# Altium footprint library LED.PcbLib: 25 footprints (part 2 of 2)
Each footprint in its own frame and in the unit in brackets; x right, y up, seen from the top. Pads: shape width x height; smd on the part's side, far side on the other; paste and mask are expansions set on the pad; w line width, h text height; cw(c..) or ccw(c..) is an arc to the next point about the centre after c.
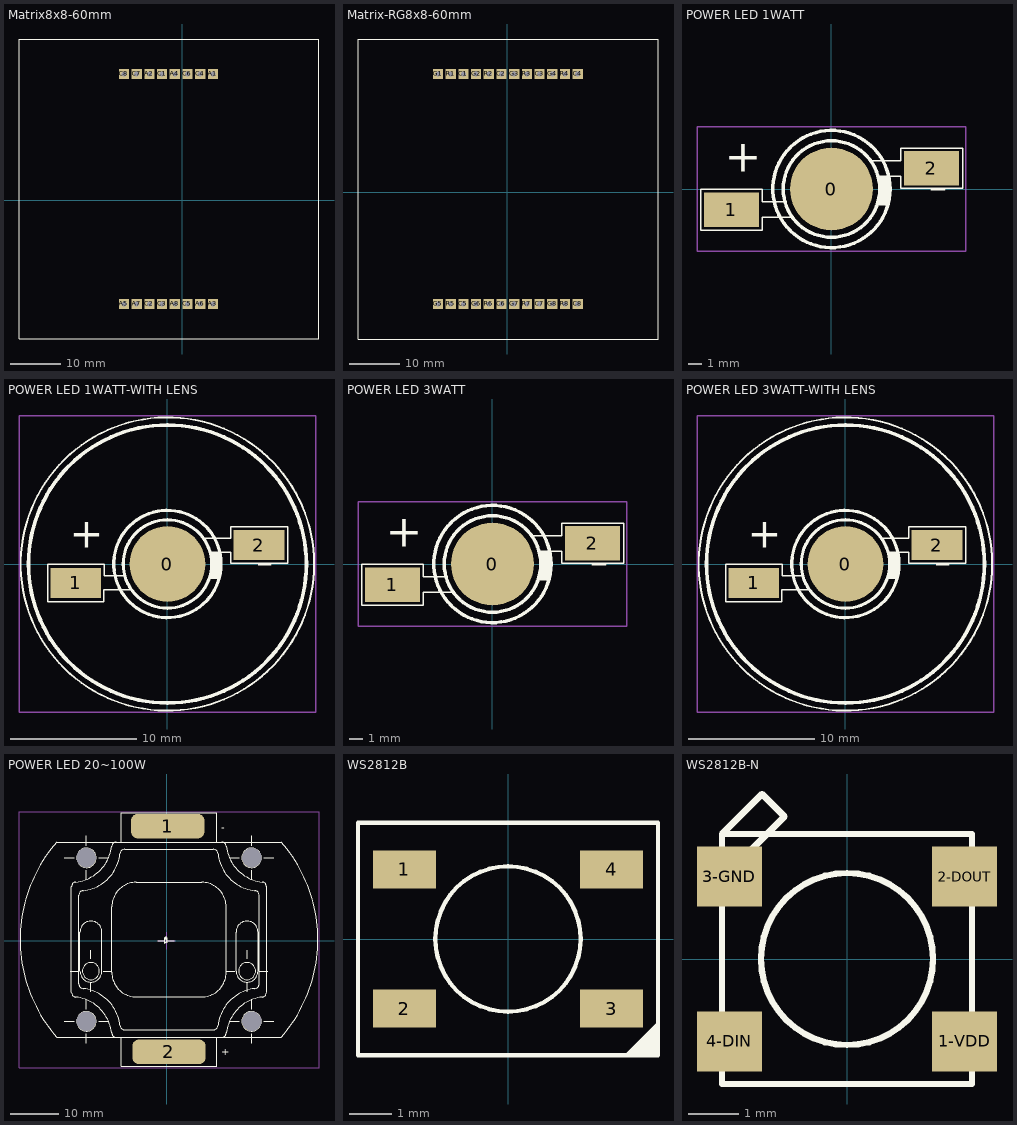
[diagram p1: the footprints below, top view; thin cyan lines are the x and y axes]

## Matrix8x8-60mm [mil]
pads (16):
  rect 80x80 hole 40: A1(240.75,996.09) A2(-259.25,996.09) A3(240.75,-815.01) A4(-59.25,996.09) A5(-459.25,-815.01) A6(140.75,-815.01) A7(-359.25,-815.01) A8(-59.25,-815.01) C1(-159.25,996.09) C2(-259.25,-815.01) C3(-159.25,-815.01) C4(140.75,996.09) C5(40.75,-815.01) C6(40.75,996.09) C7(-359.25,996.09) C8(-459.25,996.09)
Top Overlay:
  lines w8: -1285.95,-1090.61 -1285.95,1271.59 1076.15,1271.59 1076.15,-1090.61 -1285.95,-1090.61

## Matrix-RG8x8-60mm [mil]
pads (24):
  rect 80x80 hole 40: C1(-343.7,932.39) C2(-43.7,932.39) C3(256.3,932.39) C4(556.3,932.39) C5(-343.7,-878.71) C6(-43.7,-878.71) C7(256.3,-878.71) C8(556.3,-878.71) G1(-543.7,932.39) G2(-243.7,932.39) G3(56.3,932.39) G4(356.3,932.39) G5(-543.7,-878.71) G6(-243.7,-878.71) G7(56.3,-878.71) G8(356.3,-878.71) R1(-443.7,932.39) R2(-143.7,932.39) R3(156.3,932.39) R4(456.3,932.39) R5(-443.7,-878.71) R6(-143.7,-878.71) R7(156.3,-878.71) R8(456.3,-878.71)
Top Overlay:
  lines w8: -1173.6,-1154.31 1188.6,-1154.31 1188.6,1207.89 -1173.6,1207.89 -1173.6,-1154.31

## POWER LED 1WATT [mm] "DESIGNER : ABBAS BASEREH"
height 6
pads (3):
  round 6 smd: 0(0,0)
  rect 4x2.5 smd: 1(-7.25,-1.5) 2(7.25,1.5)
Top Overlay:
  circle w0.254: c0,0 r4.25
  circle w0.254: c0,0 r3.5
  rectangle: 3.405,-1.185 4.185,0.93
  lines w0.1: -3.315,-0.915 -5.01,-0.915 -5.01,-0.015 -9.465,-0.015 -9.465,-1.335 -9.465,-2.985 -5.025,-2.985 -5.025,-2.055 -2.88,-2.055 ; 2.64,2.31 2.91,2.04 5.01,2.04 5.01,2.94 9.06,2.94 9.51,2.94 9.51,0.72 9.51,0.06 5.01,0.06 5.01,0.93 3.45,0.93 3.45,0.675
  text "-" at 7,-2 h5
  text "+" at -7.75,0.5 h4
Mechanical 15:
  lines w0.1: -0.5,0 0.5,0 ; 0,-0.5 0,0.5 ; -9.75,-4.5 9.75,-4.5 9.75,4.5 -9.75,4.5 -9.75,-4.5
3D body "SW3dPS-Power LED2.STEP": height 5.55, standoff 0, extent -7.25,-4 7.25,4

## POWER LED 1WATT-WITH LENS [mm] "DESIGNER : ABBAS BASEREH"
height 13
pads (3):
  round 6 smd: 0(0,0)
  rect 4x2.4 smd: 1(-7.25,-1.5) 2(7.25,1.5)
Top Overlay:
  circle w0.3: c0,0 r11
  circle w0.254: c0,0 r3.5
  circle w0.254: c0,0 r4.25
  circle w0.15: c0,0 r11.613
  rectangle: 3.405,-1.185 4.185,0.93
  lines w0.1: -3.315,-0.915 -5.01,-0.915 -5.01,-0.015 -9.465,-0.015 -9.465,-1.335 -9.465,-2.985 -5.025,-2.985 -5.025,-2.055 -2.88,-2.055 ; 2.64,2.31 2.91,2.04 5.01,2.04 5.01,2.94 9.06,2.94 9.51,2.94 9.51,0.72 9.51,0.06 5.01,0.06 5.01,0.93 3.45,0.93 3.45,0.675
  text "+" at -7.75,0.5 h4
  text "-" at 7,-2 h5
Mechanical 15:
  lines w0.1: -0.75,0 0.75,0 ; 0,-0.75 0,0.75 ; -11.75,-11.75 -11.75,11.75 11.75,11.75 11.75,-11.75 -11.75,-11.75
3D body "SW3dPS-Power LED2.STEP": height 5.55, standoff 0, extent -7.25,-4 7.25,4
3D body "User Library-FL-36.STEP": height 14, standoff -0.15, extent -9.697,-9.75 9.697,9.85
3D body: height 13, standoff 0, extent -11,-11 11,11.1

## POWER LED 3WATT [mm] "DESIGNER : ABBAS BASEREH"
height 6
pads (3):
  round 6 smd: 0(0,0)
  rect 4x2.5 smd: 1(-7.25,-1.5) 2(7.25,1.5)
Top Overlay:
  circle w0.254: c0,0 r4.25
  circle w0.254: c0,0 r3.5
  rectangle: 3.405,-1.185 4.185,0.93
  lines w0.1: -3.315,-0.915 -5.01,-0.915 -5.01,-0.015 -9.465,-0.015 -9.465,-1.335 -9.465,-2.985 -5.025,-2.985 -5.025,-2.055 -2.88,-2.055 ; 2.64,2.31 2.91,2.04 5.01,2.04 5.01,2.94 9.06,2.94 9.51,2.94 9.51,0.72 9.51,0.06 5.01,0.06 5.01,0.93 3.45,0.93 3.45,0.675
  text "-" at 7,-2 h5
  text "+" at -7.75,0.5 h4
Mechanical 15:
  lines w0.1: -0.5,0 0.5,0 ; 0,-0.5 0,0.5 ; -9.75,-4.5 9.75,-4.5 9.75,4.5 -9.75,4.5 -9.75,-4.5
3D body "User Library-zled_p4-1.STEP": height 5.2, standoff 0, extent -7.25,-4 7.25,4

## POWER LED 3WATT-WITH LENS [mm] "DESIGNER : ABBAS BASEREH"
height 13
pads (3):
  round 6 smd: 0(0,0)
  rect 4x2.4 smd: 1(-7.25,-1.5) 2(7.25,1.5)
Top Overlay:
  circle w0.15: c0,0 r11.613
  circle w0.254: c0,0 r4.25
  circle w0.254: c0,0 r3.5
  circle w0.3: c0,0 r11
  rectangle: 3.405,-1.185 4.185,0.93
  lines w0.1: -3.315,-0.915 -5.01,-0.915 -5.01,-0.015 -9.465,-0.015 -9.465,-1.335 -9.465,-2.985 -5.025,-2.985 -5.025,-2.055 -2.88,-2.055 ; 2.64,2.31 2.91,2.04 5.01,2.04 5.01,2.94 9.06,2.94 9.51,2.94 9.51,0.72 9.51,0.06 5.01,0.06 5.01,0.93 3.45,0.93 3.45,0.675
  text "-" at 7,-2 h5
  text "+" at -7.75,0.5 h4
Mechanical 15:
  lines w0.1: -0.75,0 0.75,0 ; 0,-0.75 0,0.75 ; -11.75,-11.75 11.75,-11.75 11.75,11.75 -11.75,11.75 -11.75,-11.75
3D body: height 13, standoff 0, extent -11,-11 11,11.1
3D body "User Library-FL-36.STEP": height 14, standoff -0.15, extent -9.697,-9.75 9.697,9.85
3D body "User Library-zled_p4-1.STEP": height 5.2, standoff 0, extent -7.25,-4 7.25,4

## POWER LED 20~100W [mm] "DESIGNER ABBAS BASEREH"
height 5
pads (6):
  rrect50% 15x5 smd: 1(0.25,23.5) 2(0.5,-22.75)
  round 4 hole 4: SCREW(-16.431,-16.508) SCREW(-16.431,17.008) SCREW(17.431,-16.508) SCREW(17.431,17.008)
Top Overlay:
  circle w0.013: c16.5,-6.197 r1.75
  circle w0.013: c-15.5,-6.197 r1.75
  circle w0.013: c-4.442,23.25 r1
  circle w0.013: c0.5,23.25 r1
  circle w0.013: c5.558,23.25 r1
  circle w0.013: c0.5,-22.75 r1
  circle w0.013: c5.5,-22.75 r1
  circle w0.013: c-4.5,-22.75 r1
  circle w0.013: c17.431,17.008 r2
  circle w0.013: c17.431,-16.508 r2
  circle w0.013: c-16.431,17.008 r2
  circle w0.013: c-16.431,-16.508 r2
  region: 0.041,0.642 0.175,0.642 0.175,0.508
  region: -0.109,0.817 0.025,0.817 0.025,0.683
  lines w0.013: -20.931,-16.508 -18.931,-16.508 ; -20.931,17.008 -18.931,17.008 ; -19.75,-6.197 -18,-6.197 ; -16.431,-21.008 -16.431,-19.008 ; -16.431,-14.008 -16.431,-12.008 ; -16.431,12.508 -16.431,14.508 ; -16.431,19.508 -16.431,21.508 ; -15.5,-10.447 -15.5,-8.697 ; -15.5,-3.697 -15.5,-1.947 ; -13.931,-16.508 -11.931,-16.508 ; -13.931,17.008 -11.931,17.008 ; -13,-6.197 -11.25,-6.197 ; -9.275,-19.75 -9.275,-25.75 10.275,-25.75 10.275,-19.75 ; -9.275,20.25 -9.275,26.25 10.275,26.25 10.275,20.25 ; 12.25,-6.197 14,-6.197 ; 12.931,-16.508 14.931,-16.508 ; 12.931,17.008 14.931,17.008 ; 16.5,-10.447 16.5,-8.697 ; 16.5,-3.697 16.5,-1.947 ; 17.431,-21.008 17.431,-19.008 ; 17.431,-14.008 17.431,-12.008 ; 17.431,12.508 17.431,14.508 ; 17.431,19.508 17.431,21.508 ; 19,-6.197 20.75,-6.197 ; 19.931,-16.508 21.931,-16.508 ; 19.931,17.008 21.931,17.008 ; -10.275,-19.75 cw(c-10.275,-18.75) -11.269,-18.861 ccw(c-19.5,-19.777) -18.608,-11.544 cw(c-18.5,-10.549) -19.5,-10.549 -19.5,11.049 cw(c-18.5,11.049) -18.608,12.044 ccw(c-19.5,20.277) -11.269,19.361 cw(c-10.275,19.25) -10.275,20.25 ; -10.275,-19.75 11.275,-19.75 ; -10.275,-19.75 -22.535,-19.75 cw(c0.5,0.25) -22.535,20.25 -10.275,20.25 ; -10.275,20.25 11.275,20.25 ; 11.275,-19.75 ccw(c11.275,-18.75) 12.269,-18.861 cw(c20.5,-19.777) 19.608,-11.544 ccw(c19.5,-10.549) 20.5,-10.549 20.5,11.049 ccw(c19.5,11.049) 19.608,12.044 cw(c20.5,20.277) 12.269,19.361 ccw(c11.275,19.25) 11.275,20.25 ; 11.275,-19.75 23.535,-19.75 ccw(c0.5,0.25) 23.535,20.25 11.275,20.25 ; -18,-8.803 ccw(c-17,-8.803) -17.105,-9.797 cw(c-18,-18.25) -9.547,-17.355 ccw(c-8.553,-17.25) -8.553,-18.25 9.553,-18.25 ccw(c9.553,-17.25) 10.547,-17.355 cw(c19,-18.25) 18.105,-9.797 ccw(c18,-8.803) 19,-8.803 19,9.303 ccw(c18,9.303) 18.105,10.297 cw(c19,18.75) 10.547,17.855 ccw(c9.553,17.75) 9.553,18.75 -8.553,18.75 ccw(c-8.553,17.75) -9.547,17.855 cw(c-18,18.75) -17.105,10.297 ccw(c-17,9.303) -18,9.303 -18,-8.803 ; -17.75,-6.197 ccw(c-15.5,-6.197) -13.25,-6.197 -13.25,1.803 ccw(c-15.5,1.803) -17.75,1.803 -17.75,-6.197 ; -11.218,-6.495 ccw(c-6.218,-6.495) -6.218,-11.495 7.218,-11.495 ccw(c7.218,-6.495) 12.218,-6.495 12.218,6.995 ccw(c7.218,6.995) 7.218,11.995 -6.218,11.995 ccw(c-6.218,6.995) -11.218,6.995 -11.218,-6.495 ; 14.25,-6.197 ccw(c16.5,-6.197) 18.75,-6.197 18.75,1.803 ccw(c16.5,1.803) 14.25,1.803 14.25,-6.197
  lines w0.051: -1.77,0.025 -0.416,0.025 ; -0.325,0.65 -0.175,0.8 -0.175,0.625 ; -0.175,0.475 -0.025,0.625 -0.025,0.45 ; -0.167,0.625 -0.042,0.75 ; -0.017,0.45 0.108,0.575 ; 0.175,-0.425 0.175,0.475 ; 0.175,0.025 1.55,0.025 ; -0.391,-0.541 -0.391,0.546 0.153,0.003 -0.391,-0.541
  text "+" at 11.25,-23.5 h1.52
  text "-" at 11.25,22.5 h1.52
Mechanical 15:
  lines w0.1: -1.75,0 1.75,0 ; 0,-1.75 0,1.75 ; -30.25,-26 31.25,-26 31.25,26.5 -30.25,26.5 -30.25,-26
3D body "APPLICATION LED-50w - 100w.STEP": height 4.4, standoff 0, extent -30.006,-25.75 31.006,26.25

## WS2812B [mm]
pads (4):
  rect 1.5x0.9 smd: 1(-2.45,1.65) 2(-2.45,-1.65) 3(2.45,-1.65) 4(2.45,1.65)
Top Overlay:
  circle w0.1: c0,0 r1.72
  region: 3.55,-2.75 2.75,-2.75 3.55,-1.95
  lines w0.1: -3.55,-2.75 1.749,-2.75 3.55,-2.75 3.55,2.75 -3.55,2.75 -3.55,-2.75
3D body "User Library-ws2812B-1.step": height 1.6, standoff 0.03, extent -2.7,-2.5 2.7,2.5

## WS2812B-N [mm]
pads (4):
  rect 1.3x1.2 smd: 1-VDD(2.35,-1.65) 2-DOUT(2.35,1.65) 3-GND(-2.35,1.65) 4-DIN(-2.35,-1.65)
Top Overlay:
  circle w0.127: c0,0 r1.72
  lines w0.127: -2.5,1.6 -2.5,-2.5 2.5,-2.5 2.5,2.5 -1.6,2.5 ; -2.5,1.6 -2.5,2.5 ; -2.5,1.6 -1.6,2.5 ; -2.5,2.5 -1.6,2.5 ; -2.5,2.5 -1.7,3.3 -1.25,2.85 -1.6,2.5